# EAGLE library part MAGJACK (library magjacksmalldrill)
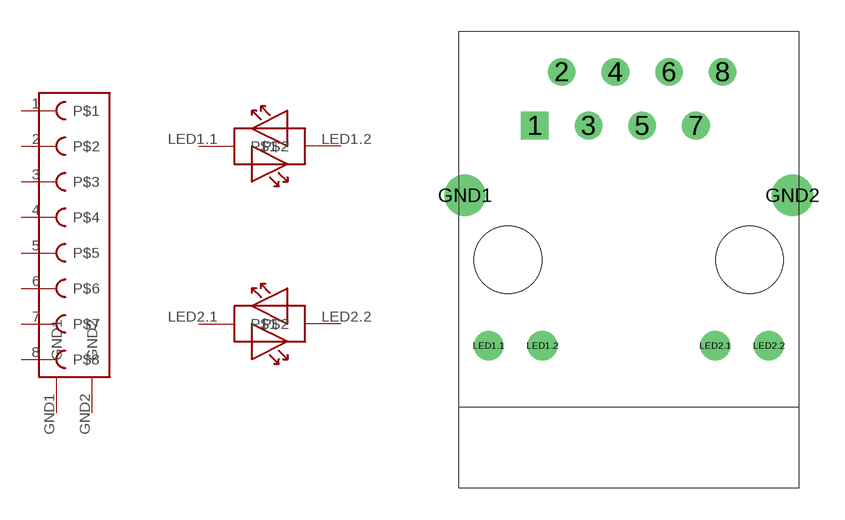
[diagram p0: symbol with the pads of MAGJACK; footprint MAGJACK]

Designator prefix -; gates G$1=MAGJACK G$2=LED G$3=LED

## MAGJACK  [MAGJACK]
1  G$1:P$1  pas
2  G$1:P$2  pas
3  G$1:P$3  pas
4  G$1:P$4  pas
5  G$1:P$5  pas
6  G$1:P$6  pas
7  G$1:P$7  pas
8  G$1:P$8  pas
GND1  G$1:GND1  pas
GND2  G$1:GND2  pas
LED1.1  G$2:P$1  pas
LED1.2  G$2:P$2  pas
LED2.1  G$3:P$1  pas
LED2.2  G$3:P$2  pas

## Footprint MAGJACK (pad centres in mm)
MagJack with slightly smaller than recommended, but better fitting pad-drills.
drill 0.8 square: 1 -4.445,6.35
drill 0.8: 2 -3.175,8.89; 3 -1.905,6.35; 4 -0.635,8.89; 5 0.635,6.35; 6 1.905,8.89; 7 3.175,6.35; 8 4.445,8.89
drill 1.3: GND1 -7.747,3.048; GND2 7.747,3.048
drill 0.9: LED1.1 -6.629,-4.064; LED1.2 -4.089,-4.064; LED2.1 4.089,-4.064; LED2.2 6.629,-4.064
hole 3.2 at -5.715,0
hole 3.2 at 5.715,0